# Altium footprint library HDRV6W82P254_2X3_762X500X884P.PcbLib: 1 footprints
Each footprint in its own frame and in the unit in brackets; x right, y up, seen from the top. Pads: shape width x height; smd on the part's side, far side on the other; paste and mask are expansions set on the pad; w line width, h text height; cw(c..) or ccw(c..) is an arc to the next point about the centre after c.
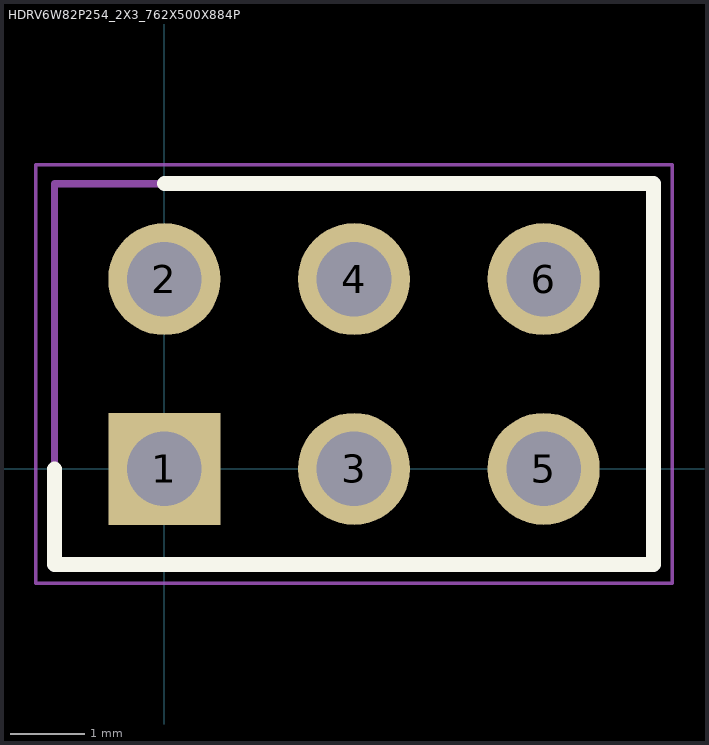
[diagram p0: the footprint, top view; thin cyan lines are the x and y axes]

## HDRV6W82P254_2X3_762X500X884P [mm]
pads (6):
  rect 1.5x1.5 / inner round 1.5 / far side rect 1.5x1.5 hole 1: 1(0,0)
  round 1.5 hole 1: 2(0,2.54) 3(2.54,0) 4(2.54,2.54) 5(5.08,0) 6(5.08,2.54)
Top Overlay:
  lines w0.2: -1.47,0 -1.47,-1.28 6.55,-1.28 6.55,3.82 0,3.82
Mechanical 15:
  lines w0.1: -1.47,-1.28 -1.47,3.82 6.55,3.82 6.55,-1.28 -1.47,-1.28
Mechanical 20:
  lines w0.05: -1.72,-1.53 -1.72,4.07 6.8,4.07 6.8,-1.53 -1.72,-1.53